# Altium schematic symbol library 摇杆电位计.SchLib: 4 symbols
Pins are listed as number, name and electrical type; pins without a type are passive.

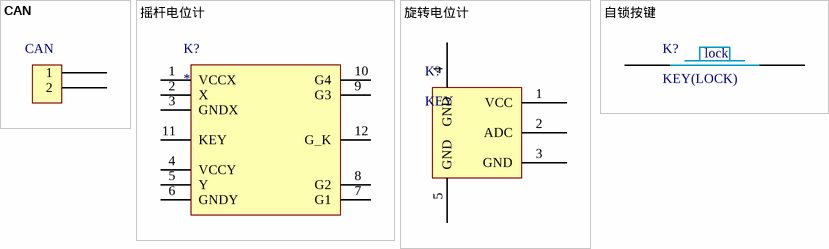
[diagram p0: symbols CAN to 自锁按键]

## CAN
designator CAN  (value not drawn)
footprint CAN
pins: 1, 2

## 摇杆电位计
designator K?
footprint PCBComponent_1
pins: 1 VCCX, 2 X, 3 GNDX, 4 VCCY, 5 Y, 6 GNDY, 7 G1, 8 G2, 9 G3, 10 G4, 11 KEY, 12 G_K

## 旋转电位计
designator K?, comment KEY
footprint 旋转电位计
pins: 1 VCC, 2 ADC, 3 GND, 4 GND, 5 GND

## 自锁按键
designator K?, comment KEY(LOCK)
pins: 1, 2
text: lock